# Altium schematic symbol library gba-zero-parts.SCHLIB: 23 symbols
Pins are listed as number, name and electrical type; pins without a type are passive.

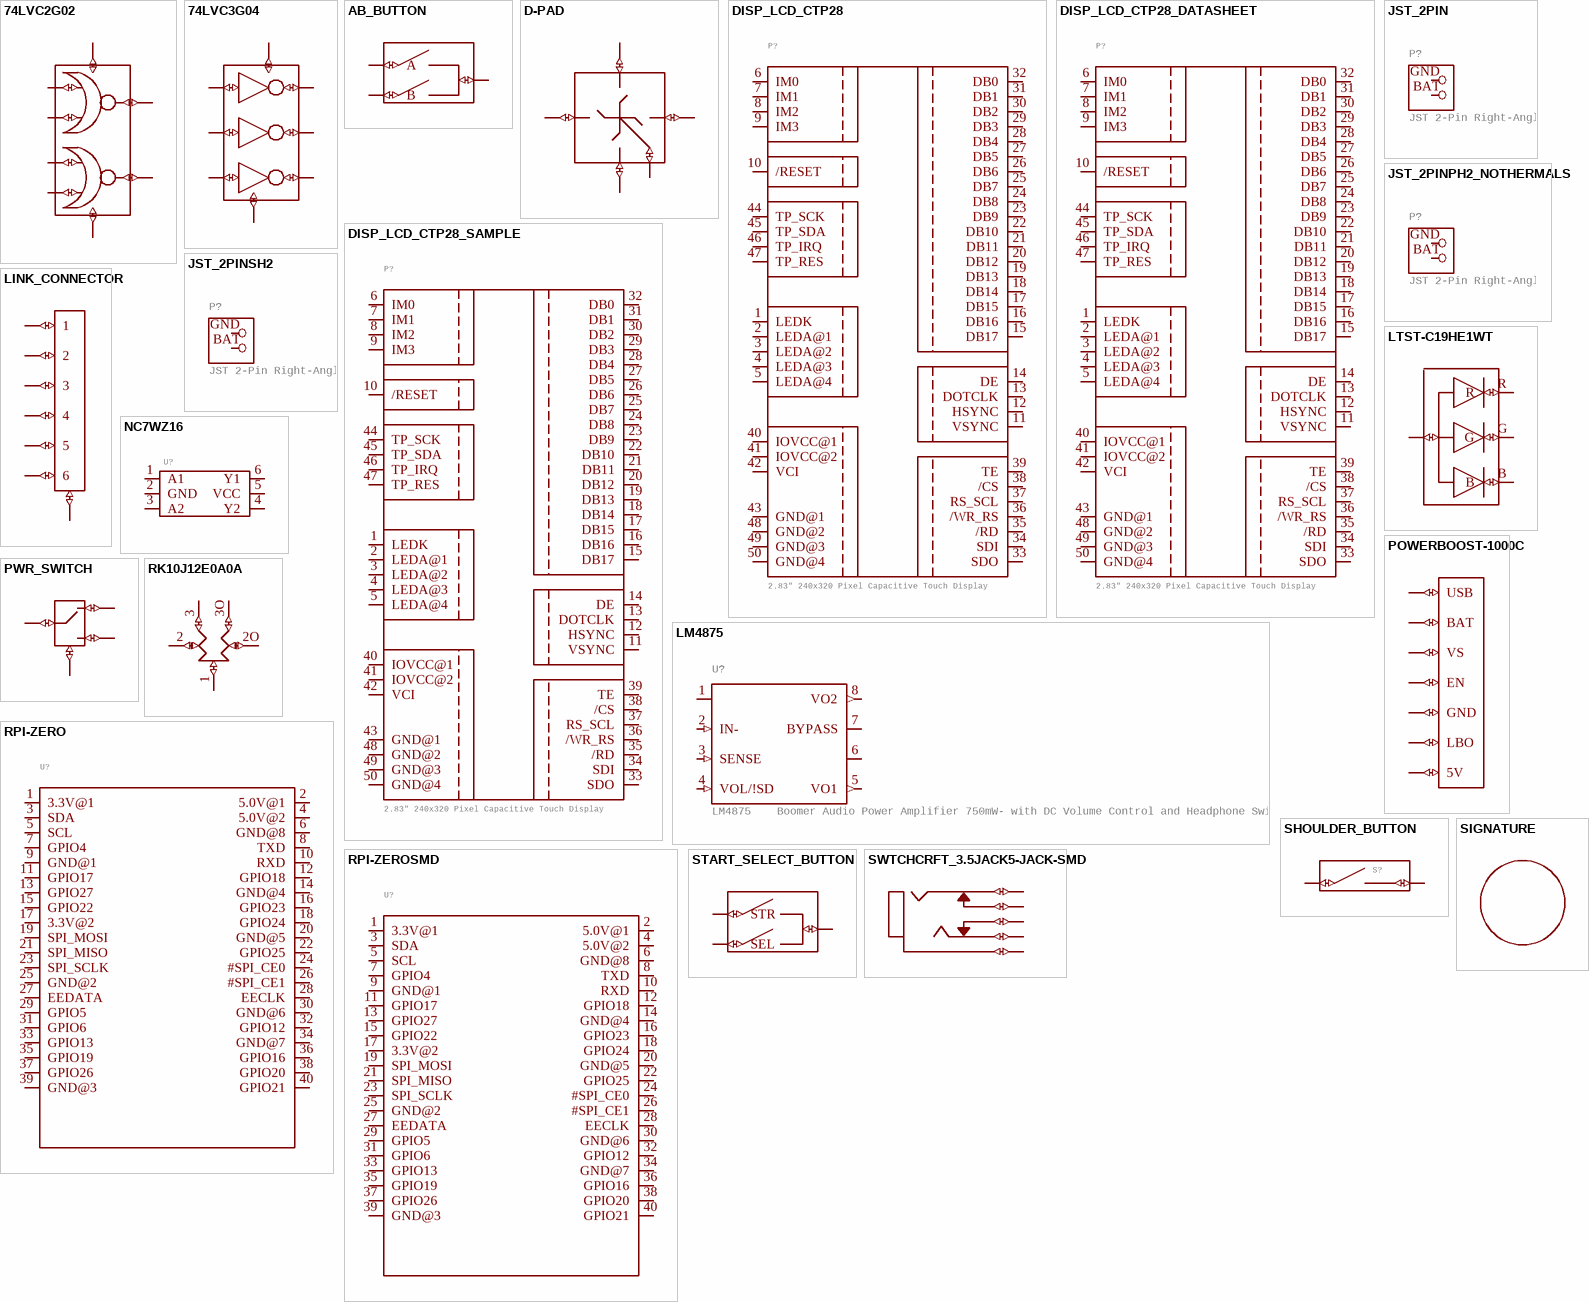
[diagram p0: symbols 74LVC2G02 to SWTCHCRFT_3.5JACK5-JACK-SMD]

## 74LVC2G02
designator U?
GateName_1: G$1; SymbolName_1: 74LVC2G02DP; DeviceSetName: 74LVC2G02; LibraryName: gba-zero-parts; Package: TSSOP-8
footprint TSSOP-8
pins: 1 1A (io), 2 1B (io), 3 2Y (io), 4 GND (io), 5 2A (io), 6 2B (io), 7 1Y (io), 8 VCC (io)

## 74LVC3G04
designator U?
GateName_1: G$1; SymbolName_1: 74LVC3G04; LibraryName: gba-zero-parts; DeviceSetName: 74LVC3G04; Package: TSSOP-8
footprint TSSOP-8
pins: 1 1A (io), 2 3Y (io), 3 2A (io), 4 GND (io), 5 2Y (io), 6 3A (io), 7 1Y (io), 8 VCC (io)

## AB_BUTTON
designator S?
GateName_1: G$1; SymbolName_1: AB_BUTTON; LibraryName: gba-zero-parts; DeviceSetName: AB_BUTTON; Package: AB_BUTTON
footprint AB_BUTTON
pins: A@1,2 A (io), B@1,2 B (io), GND@1-4 GND (io)

## D-PAD
designator S?
GateName_1: G$1; SymbolName_1: D-PAD; LibraryName: gba-zero-parts; DeviceSetName: D-PAD; Package: D-PAD
footprint D-PAD
pins: DOWN (io), GND@1-4 GND (io), LEFT (io), RIGHT (io), UP (io)

## DISP_LCD_CTP28
designator P?, comment 2.83" 240x320 Pixel Capacitive Touch Display
GateName_1: G$1; SymbolName_1: TFT_CTP28_240X320_50PIN; DeviceSetName: DISP_LCD_CTP28; LibraryName: gba-zero-parts; Package: FPC-50-CON
footprint FPC-50-CON
pins: 1 LEDK (io), 2 LEDA@1 (io), 3 LEDA@2 (io), 4 LEDA@3 (io), 5 LEDA@4 (io), 6 IM0 (io), 7 IM1 (io), 8 IM2 (io), 9 IM3 (io), 10 /RESET (io), 11 VSYNC (io), 12 HSYNC (io), 13 DOTCLK (io), 14 DE (io), 15 DB17 (io), 16 DB16 (io), 17 DB15 (io), 18 DB14 (io), 19 DB13 (io), 20 DB12 (io), 21 DB11 (io), 22 DB10 (io), 23 DB9 (io), 24 DB8 (io), 25 DB7 (io), 26 DB6 (io), 27 DB5 (io), 28 DB4 (io), 29 DB3 (io), 30 DB2 (io), 31 DB1 (io), 32 DB0 (io), 33 SDO (io), 34 SDI (io), 35 /RD (io), 36 /WR_RS (io), 37 RS_SCL (io), 38 /CS (io), 39 TE (io), 40 IOVCC@1 (io), 41 IOVCC@2 (io), 42 VCI (io), 43 GND@1 (io), 44 TP_SCK (io), 45 TP_SDA (io), 46 TP_IRQ (io), 47 TP_RES (io), 48 GND@2 (io), 49 GND@3 (io), 50 GND@4 (io)

## DISP_LCD_CTP28_DATASHEET
designator P?, comment 2.83" 240x320 Pixel Capacitive Touch Display
GateName_1: G$1; SymbolName_1: TFT_CTP28_240X320_50PIN; DeviceName: _DATASHEET; DeviceSetName: DISP_LCD_CTP28; LibraryName: gba-zero-parts; Package: TFT_CTP28
footprint TFT_CTP28
pins: 1 LEDK (io), 2 LEDA@1 (io), 3 LEDA@2 (io), 4 LEDA@3 (io), 5 LEDA@4 (io), 6 IM0 (io), 7 IM1 (io), 8 IM2 (io), 9 IM3 (io), 10 /RESET (io), 11 VSYNC (io), 12 HSYNC (io), 13 DOTCLK (io), 14 DE (io), 15 DB17 (io), 16 DB16 (io), 17 DB15 (io), 18 DB14 (io), 19 DB13 (io), 20 DB12 (io), 21 DB11 (io), 22 DB10 (io), 23 DB9 (io), 24 DB8 (io), 25 DB7 (io), 26 DB6 (io), 27 DB5 (io), 28 DB4 (io), 29 DB3 (io), 30 DB2 (io), 31 DB1 (io), 32 DB0 (io), 33 SDO (io), 34 SDI (io), 35 /RD (io), 36 /WR_RS (io), 37 RS_SCL (io), 38 /CS (io), 39 TE (io), 40 IOVCC@1 (io), 41 IOVCC@2 (io), 42 VCI (io), 43 GND@1 (io), 44 TP_SCK (io), 45 TP_SDA (io), 46 TP_IRQ (io), 47 TP_RES (io), 48 GND@2 (io), 49 GND@3 (io), 50 GND@4 (io)

## DISP_LCD_CTP28_SAMPLE
designator P?, comment 2.83" 240x320 Pixel Capacitive Touch Display
GateName_1: G$1; SymbolName_1: TFT_CTP28_240X320_50PIN; DeviceName: _SAMPLE; DeviceSetName: DISP_LCD_CTP28; LibraryName: gba-zero-parts; Package: TFT_2.83IN_240X320_50PIN
footprint TFT_2.83IN_240X320_50PIN
pins: 1 LEDK (io), 2 LEDA@1 (io), 3 LEDA@2 (io), 4 LEDA@3 (io), 5 LEDA@4 (io), 6 IM0 (io), 7 IM1 (io), 8 IM2 (io), 9 IM3 (io), 10 /RESET (io), 11 VSYNC (io), 12 HSYNC (io), 13 DOTCLK (io), 14 DE (io), 15 DB17 (io), 16 DB16 (io), 17 DB15 (io), 18 DB14 (io), 19 DB13 (io), 20 DB12 (io), 21 DB11 (io), 22 DB10 (io), 23 DB9 (io), 24 DB8 (io), 25 DB7 (io), 26 DB6 (io), 27 DB5 (io), 28 DB4 (io), 29 DB3 (io), 30 DB2 (io), 31 DB1 (io), 32 DB0 (io), 33 SDO (io), 34 SDI (io), 35 /RD (io), 36 /WR_RS (io), 37 RS_SCL (io), 38 /CS (io), 39 TE (io), 40 IOVCC@1 (io), 41 IOVCC@2 (io), 42 VCI (io), 43 GND@1 (io), 44 TP_SCK (io), 45 TP_SDA (io), 46 TP_IRQ (io), 47 TP_RES (io), 48 GND@2 (io), 49 GND@3 (io), 50 GND@4 (io)

## JST_2PIN
designator P?, comment JST 2-Pin Right-Angle Connector  PH-Series - 4UConnector: 17311  SH-Series - 4UConnector: 07278
GateName_1: G$1; SymbolName_1: PINHD2; DeviceSetName: JST_2PIN; LibraryName: gba-zero-parts; Package: JSTPH2
footprint JSTPH2
pins: BAT 2, GND 1

## JST_2PINPH2_NOTHERMALS
designator P?, comment JST 2-Pin Right-Angle Connector  PH-Series - 4UConnector: 17311  SH-Series - 4UConnector: 07278
GateName_1: G$1; SymbolName_1: PINHD2; DeviceName: PH2_NOTHERMALS; DeviceSetName: JST_2PIN; LibraryName: gba-zero-parts; Package: JSTPH2_NOTHERMALS
footprint JSTPH2_NOTHERMALS
pins: BAT 2, GND 1

## JST_2PINSH2
designator P?, comment JST 2-Pin Right-Angle Connector  PH-Series - 4UConnector: 17311  SH-Series - 4UConnector: 07278
GateName_1: G$1; SymbolName_1: PINHD2; DeviceName: SH2; DeviceSetName: JST_2PIN; LibraryName: gba-zero-parts; Package: JSTSH2
footprint JSTSH2
pins: BAT 2, GND 1

## LINK_CONNECTOR
designator P?
GateName_1: G$1; SymbolName_1: LINK_CONNECTOR; LibraryName: gba-zero-parts; DeviceSetName: LINK_CONNECTOR; Package: LINK_CONNECTOR
footprint LINK_CONNECTOR
pins: 1 (io), 2 (io), 3 (io), 4 (io), 5 (io), 6 (io), GND@1,2 GND (io)

## LM4875
designator U?, comment LM4875    Boomer Audio Power Amplifier 750mW- with DC Volume Control and Headphone Switch
GateName_1: G$1; SymbolName_1: LM4875; LibraryName: gba-zero-parts; DeviceSetName: LM4875; Package: SO-8
footprint SO-8
pins: 1 VDD (power), 2 IN- (in), 3 SENSE (in), 4 VOL/!SD (in), 5 VO1 (out), 6 GND@ (power), 7 BYPASS, 8 VO2 (out)

## LTST-C19HE1WT
designator D?
GateName_1: G$1; SymbolName_1: LTST-C19HE1WT; LibraryName: gba-zero-parts; DeviceSetName: LTST-C19HE1WT; Package: WL-SBCW-0606
footprint WL-SBCW-0606
pins: B (io), G (io), R (io), VCC (io)

## NC7WZ16
designator U?
GateName_1: G$1; SymbolName_1: NC7WZ16; LibraryName: gba-zero-parts; DeviceSetName: NC7WZ16; Package: SC-70-6
footprint SC-70-6
pins: 1 A1 (io), 2 GND (io), 3 A2 (io), 4 Y2 (io), 5 VCC (io), 6 Y1 (io)

## POWERBOOST-1000C
designator U?
GateName_1: G$1; SymbolName_1: POWERBOOST-1000C; LibraryName: gba-zero-parts; DeviceSetName: POWERBOOST-1000C; Package: POWERBOOST-1000C
footprint POWERBOOST-1000C
pins: 5V (io), BAT (io), EN (io), GND@1,2 GND (io), LBO (io), USB (io), VS (io)

## PWR_SWITCH
designator S?
GateName_1: G$1; SymbolName_1: PWR-SWITCH; DeviceSetName: PWR_SWITCH; LibraryName: gba-zero-parts; Package: PWR-SWITCH
footprint PWR-SWITCH
pins: C@1,2 C (io), GND@1,2 GND (io), L (io), R (io)

## RK10J12E0A0A
designator R?
GateName_1: G$1; SymbolName_1: RK10J12E0A0A; LibraryName: gba-zero-parts; DeviceSetName: RK10J12E0A0A; Package: RK10J12E0A0A
footprint RK10J12E0A0A
pins: 1 (io), 2 (io), 2O (io), 3 (io), 3O (io)

## RPI-ZERO
designator U?
GateName_1: G$1; SymbolName_1: RPI-ZERO; LibraryName: gba-zero-parts; DeviceSetName: RPI-ZERO; Package: RASPBERRYPI_BASTELSTUBE_V13_RASPI_BOARD_B+_FULL
footprint RASPBERRYPI_BASTELSTUBE_V13_RASPI_BOARD_B+_FULL
pins: 1 3.3V@1 (io), 2 5.0V@1 (io), 3 SDA (io), 4 5.0V@2 (io), 5 SCL (io), 6 GND@8 (power), 7 GPIO4 (io), 8 TXD (io), 9 GND@1 (power), 10 RXD (io), 11 GPIO17 (io), 12 GPIO18 (io), 13 GPIO27 (io), 14 GND@4 (power), 15 GPIO22 (io), 16 GPIO23 (io), 17 3.3V@2 (io), 18 GPIO24 (io), 19 SPI_MOSI (io), 20 GND@5 (power), 21 SPI_MISO (io), 22 GPIO25 (io), 23 SPI_SCLK (io), 24 #SPI_CE0 (io), 25 GND@2 (power), 26 #SPI_CE1 (io), 27 EEDATA (io), 28 EECLK (io), 29 GPIO5 (io), 30 GND@6 (power), 31 GPIO6 (io), 32 GPIO12 (io), 33 GPIO13 (io), 34 GND@7 (power), 35 GPIO19 (io), 36 GPIO16 (io), 37 GPIO26 (io), 38 GPIO20 (io), 39 GND@3 (power), 40 GPIO21 (io)

## RPI-ZEROSMD
designator U?
GateName_1: G$1; SymbolName_1: RPI-ZERO; DeviceName: SMD; LibraryName: gba-zero-parts; DeviceSetName: RPI-ZERO; Package: RPI-SMD
footprint RPI-SMD
pins: 1 3.3V@1 (io), 2 5.0V@1 (io), 3 SDA (io), 4 5.0V@2 (io), 5 SCL (io), 6 GND@8 (power), 7 GPIO4 (io), 8 TXD (io), 9 GND@1 (power), 10 RXD (io), 11 GPIO17 (io), 12 GPIO18 (io), 13 GPIO27 (io), 14 GND@4 (power), 15 GPIO22 (io), 16 GPIO23 (io), 17 3.3V@2 (io), 18 GPIO24 (io), 19 SPI_MOSI (io), 20 GND@5 (power), 21 SPI_MISO (io), 22 GPIO25 (io), 23 SPI_SCLK (io), 24 #SPI_CE0 (io), 25 GND@2 (power), 26 #SPI_CE1 (io), 27 EEDATA (io), 28 EECLK (io), 29 GPIO5 (io), 30 GND@6 (power), 31 GPIO6 (io), 32 GPIO12 (io), 33 GPIO13 (io), 34 GND@7 (power), 35 GPIO19 (io), 36 GPIO16 (io), 37 GPIO26 (io), 38 GPIO20 (io), 39 GND@3 (power), 40 GPIO21 (io)

## SHOULDER_BUTTON
designator S?
GateName_1: G$1; SymbolName_1: SHOULDER_BUTTON; LibraryName: gba-zero-parts; DeviceSetName: SHOULDER_BUTTON; Package: SHOULDER_BUTTON
footprint SHOULDER_BUTTON
pins: GND@1-3 2 (io), SW 1 (io)

## SIGNATURE
designator ?
GateName_1: G$1; SymbolName_1: SIGNATURE; LibraryName: gba-zero-parts; DeviceSetName: SIGNATURE; Package: SIGNATURE
footprint SIGNATURE

## START_SELECT_BUTTON
designator S?
GateName_1: G$1; SymbolName_1: START_SELECT_BUTTON; LibraryName: gba-zero-parts; DeviceSetName: START_SELECT_BUTTON; Package: START_SELECT_BUTTON
footprint START_SELECT_BUTTON
pins: GND@1-4 GND (io), SEL (io), STR (io)

## SWTCHCRFT_3.5JACK5-JACK-SMD
designator J?, comment Switchcraft 3.5mm Stereo Audio Jack manufacturer: 35RASMT4BHNTRX digikey: SC1488-1-ND  (value not drawn)
GateName_1: G$1; SymbolName_1: SWITCHCRAFT_3.5MM_SMD; DeviceName: 5-JACK-SMD; DeviceSetName: SWTCHCRFT_3.5JACK; LibraryName: gba-zero-parts; Package: 4-JACK-SMD
footprint 4-JACK-SMD
pins: 1 (io), 2 (io), 3 (io), 4 (io), 5 (io)